# Altium schematic symbol library TP_LIB.SchLib: 10 symbols
Pins are listed as number, name and electrical type; pins without a type are passive.

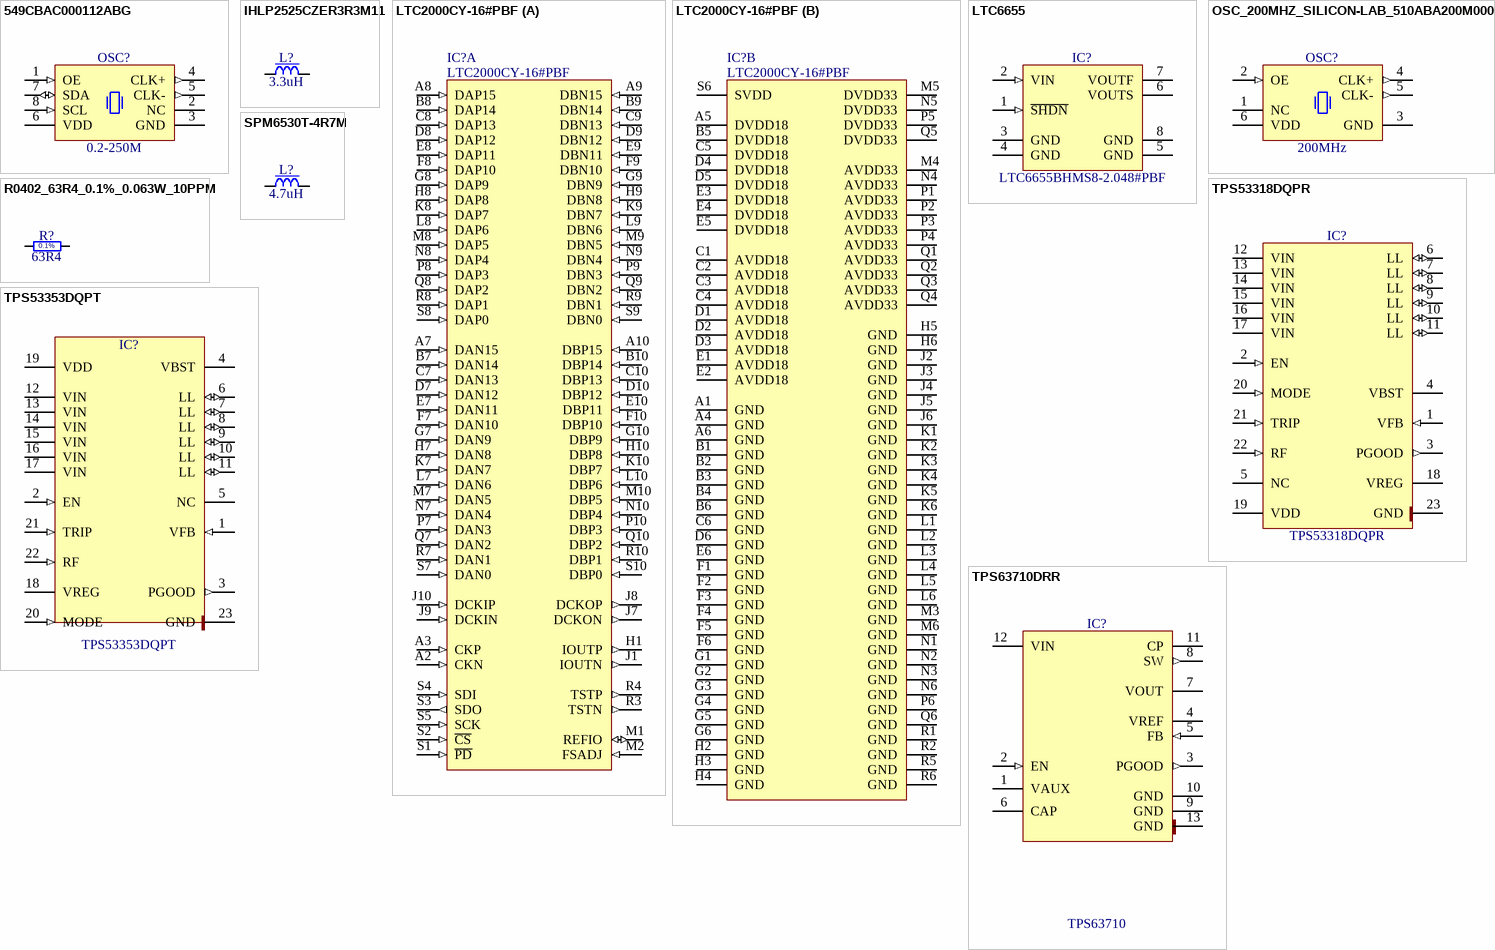
[diagram p0: symbols 549CBAC000112ABG to TPS63710DRR]

## 549CBAC000112ABG
designator OSC?, comment 0.2-250M
Ultra Low Jitter I2C Programmable XO (95 fs), 0.2 to 250MHz; Manufacturer: Silabs; Part Name: OSC_10-280MHZ_SILICON-LAB_Si570BBC000121DG; Part Number: OSC_0.2_250M_SILICON-LAB_549CBAC000112ABG; Cell Name: OSC_SILICON-LAB_SI549; Device: 549CBAC000112ABG; Tolerance: 25ppm; Voltage: 3V3; Case: OSC_SILICON-LAB_SI549; Manufacturer Part Number: 549CBAC000112ABG; Part Description: Ultra Low Jitter I2C Programmable XO (95 fs), 0.2 to 250MHz; Value: 0.2-250M
footprint OSC_SILICON-LAB_SI570 (Oscillator Si570 Series, 8 pins, 5x7mm)
pins: 1 OE (in), 2 NC, 3 GND (power), 4 CLK+ (out), 5 CLK- (out), 6 VDD (power), 7 SDA (io), 8 SCL (in)

## IHLP2525CZER3R3M11
designator L?, comment 3.3uH
Inductor With Core; Part Description: Low Profile, High Current IHLP® Inductor; Part Number: IND2525_3.3UH_20%_VISHAY_IHLP-2525CZ-11; Manufacturer: VISHAY DALE; Manufacturer Part Number: IHLP2525CZER3R3M11; Autho: TP; Power: 6.5A; Resistance: 0.026R; Tolerance: ±20%; Case: 2525; Pin Count: 2; Sense: No; Socket: No; SMD: Yes; Component Kind: Standard; Component Type: Standard; ComponentHeight: 3mm; CreateDate: 16.01.2019; Footprint: INDM6965X300N; Mounted: Yes; Status: None; Value: 3.3uH
footprint INDM6965X300N (Inductor Molded Body, Body 6.86mm L X 6.47mm W X 3mm H, IPC Medium Density)
pins: 1, 2

## LTC2000CY-16#PBF
designator IC?
16-Bit 2.5Gsps DAC; Manufacturer: LINEAR TECHNOLOGY; Autho: CERN / TP; Bonding: No; PressFit: No; HelpURL: \\cern.ch\dfs\Applications\Altium\Datasheets\LTC2000CY-16#PBF.pdf; LatestRevisionDate: 30.01.2019; Part Number: LTC2000CY-16#PBF; Part Description: 16-Bit 2.5Gsps DAC; Manufacturer Part Number: LTC2000CY-16#PBF; PackageDescription: BGA, 0.80mm Pitch, Rect.; 170 Pin, 10 Columns X 17 Rows, 9.00mm X 15.00mm X 1.69mm H, LTC DWG # 05-08-1890; Mounted: Yes; Case: BGA170; Component Kind: Standard; Component Type: Standard; ComponentHeight: 1.69mm; CreateDate: 29.09.2017; Device: LTC2000CY-16#PBF; Footprint: LINEAR_BGA(170) # 05-08-1890; Pin Count: 170; Sense: No; SMD: Yes; Socket: No
footprint LINEAR_BGA(170) # 05-08-1890 (BGA, 0.80mm Pitch, Rect.; 170 Pin, 10 Columns X 17 Rows, 9.00mm X 15.00mm X 1.69mm H, LTC DWG # 05-08-1890)
part A pins: A2 CKN (in), A3 CKP (in), A7 DAN15 (in), A8 DAP15 (in), A9 DBN15 (in), A10 DBP15 (in), B7 DAN14 (in), B8 DAP14 (in), B9 DBN14 (in), B10 DBP14 (in), C7 DAN13 (in), C8 DAP13 (in), C9 DBN13 (in), C10 DBP13 (in), D7 DAN12 (in), D8 DAP12 (in), D9 DBN12 (in), D10 DBP12 (in), E7 DAN11 (in), E8 DAP11 (in), E9 DBN11 (in), E10 DBP11 (in), F7 DAN10 (in), F8 DAP10 (in), F9 DBN10 (in), F10 DBP10 (in), G7 DAN9 (in), G8 DAP9 (in), G9 DBN9 (in), G10 DBP9 (in), H1 IOUTP (out), H7 DAN8 (in), H8 DAP8 (in), H9 DBN8 (in), H10 DBP8 (in), J1 IOUTN (out), J7 DCKON (out), J8 DCKOP (out), J9 DCKIN (in), J10 DCKIP (in), K7 DAN7 (in), K8 DAP7 (in), K9 DBN7 (in), K10 DBP7 (in), L7 DAN6 (in), L8 DAP6 (in), L9 DBN6 (in), L10 DBP6 (in), M1 REFIO (io), M2 FSADJ (in), M7 DAN5 (in), M8 DAP5 (in), M9 DBN5 (in), M10 DBP5 (in), N7 DAN4 (in), N8 DAP4 (in), N9 DBN4 (in), N10 DBP4 (in), P7 DAN3 (in), P8 DAP3 (in), P9 DBN3 (in), P10 DBP3 (in), Q7 DAN2 (in), Q8 DAP2 (in), Q9 DBN2 (in), Q10 DBP2 (in), R3 TSTN (out), R4 TSTP (out), R7 DAN1 (in), R8 DAP1 (in), R9 DBN1 (in), R10 DBP1 (in), S1 ~{PD} (in), S2 ~{CS} (in), S3 SDO (out), S4 SDI (in), S5 SCK (in), S7 DAN0 (in), S8 DAP0 (in), S9 DBN0 (in), S10 DBP0 (in)
part B pins: A1 GND (power), A4 GND (power), A5 DVDD18 (power), A6 GND (power), B1 GND (power), B2 GND (power), B3 GND (power), B4 GND (power), B5 DVDD18 (power), B6 GND (power), C1 AVDD18 (power), C2 AVDD18 (power), C3 AVDD18 (power), C4 AVDD18 (power), C5 DVDD18 (power), C6 GND (power), D1 AVDD18 (power), D2 AVDD18 (power), D3 AVDD18 (power), D4 DVDD18 (power), D5 DVDD18 (power), D6 GND (power), E1 AVDD18 (power), E2 AVDD18 (power), E3 DVDD18 (power), E4 DVDD18 (power), E5 DVDD18 (power), E6 GND (power), F1 GND (power), F2 GND (power), F3 GND (power), F4 GND (power), F5 GND (power), F6 GND (power), G1 GND (power), G2 GND (power), G3 GND (power), G4 GND (power), G5 GND (power), G6 GND (power), H2 GND (power), H3 GND (power), H4 GND (power), H5 GND (power), H6 GND (power), J2 GND (power), J3 GND (power), J4 GND (power), J5 GND (power), J6 GND (power), K1 GND (power), K2 GND (power), K3 GND (power), K4 GND (power), K5 GND (power), K6 GND (power), L1 GND (power), L2 GND (power), L3 GND (power), L4 GND (power), L5 GND (power), L6 GND (power), M3 GND (power), M4 AVDD33 (power), M5 DVDD33 (power), M6 GND (power), N1 GND (power), N2 GND (power), N3 GND (power), N4 AVDD33 (power), N5 DVDD33 (power), N6 GND (power), P1 AVDD33 (power), P2 AVDD33 (power), P3 AVDD33 (power), P4 AVDD33 (power), P5 DVDD33 (power), P6 GND (power), Q1 AVDD33 (power), Q2 AVDD33 (power), Q3 AVDD33 (power), Q4 AVDD33 (power), Q5 DVDD33 (power), Q6 GND (power), R1 GND (power), R2 GND (power), R5 GND (power), R6 GND (power), S6 SVDD (power)

## LTC6655
designator IC?, comment LTC6655BHMS8-2.048#PBF
0.25ppm Noise, Low Drift Precision Buffered Voltage Reference; Manufacturer: LINEAR TECHNOLOGY; Part Description: 2.048V, 0.25ppm Noise, Low Drift Precision Buffered Voltage Reference; Autor: CERN DEM BC; Bonding: No; PressFit: No; Case: SSOP8; Component Kind: Standard; Footprint: SOP65P490X110-8N; LatestRevisionDate: 22.11.2016; Manufacturer Part Number: LTC6655BHMS8-2.048#PBF; Mounted: Yes; PackageDescription: SOP, 8-Leads, Body 3.1x3.1mm (max), Pitch 0.65mm, IPC Medium Density; Component Type: Standard; ComponentHeight: 1.1mm; CreateDate: 03.03.2016; Device: LTC6655BHMS8-2.048#PBF; Part Number: LTC6655BHMS8-2.048#PBF; Pin Count: 8; Sense: No; SMD: Yes; Socket: No
footprint SOP65P490X110-8N (SOP, 0.65mm pitch; 8 pin, 3.00mm W X 3.00mm L X 1.10mm H body, IPC Medium Density)
pins: 1 ~{SHDN} (in), 2 VIN (in), 3 GND (power), 4 GND (power), 5 GND (power), 6 VOUTS (power), 7 VOUTF (power), 8 GND (power)

## OSC_200MHZ_SILICON-LAB_510ABA200M000AAG
designator OSC?, comment 200MHz
Crystal Oscillator 6 pins, Si510 (LVDS/LVPECL/HCSL/Dual CMOS); Manufacturer Part Number: 510ABA200M000AAG; Part Description: 3.3V ±25ppm LVPECL Crystal Oscillator (XO), Si510 Series; Part Number: OSC_200MHZ_SILICON-LAB_510ABA200M000AAG; Manufacturer: SILICON LABS; Autho: T.P.; PressFit: No; Bonding: No; Mounted: Yes; PackageDescription: Oscillator Si510 Series, 6 pins, 5x7mm; Pin Count: 6; Sense: No; Component Kind: Standard; Component Type: Standard; ComponentHeight: 1.8mm; CreateDate: 22.01.2019; Footprint: OSC_SILICON-LAB_SI510-6N(5X7); SMD: Yes; Value: 200MHz; Socket: No
footprint OSC_SILICON-LAB_SI510-6N(5X7) (Oscillator Si510 Series, 6 pins, 5x7mm)
pins: 1 NC, 2 OE (in), 3 GND (power), 4 CLK+ (out), 5 CLK- (out), 6 VDD (power)

## R0402_63R4_0.1%_0.063W_10PPM
designator R?, comment 63R4
Resistor - 0.1%; Manufacturer: GENERIC; Manufacturer Part Number: R0402_63R4_0.1%_0.063W_10PPM; Manufacturer1 Part Number: RN73C1E63R4BTD; Part Description: Thin Film Chip Resistor; Authorr: TPrzywoz; Power: 0.063W; PressFit: No; TC: ±10ppm; Component Kind: Standard; Component Type: Standard; CreateDate: 06.12.2018; Footprint: RESC1005X35N; LatestRevisionDate: 09.03.2017; Manufacturer1 ComponentHeight: 0.35mm; Case: 0402; Manufacturer1 Example: TE Connectivity Passive Product; Mounted: Yes; Part Number: R0402_63R4_0.1%_0.063W_10PPM; Pin Count: 2; Sense: No; SMD: Yes; Socket: No; Status: Not Recommended; Tolerance: ±0.1%; Value: 63R4
footprint RESC1005X35N (Chip Resistor, EIA 0402, Metric 1005, Body 1.0x0.5mm, IPC Medium Density)
pins: 1, 2
text: 0.1%

## SPM6530T-4R7M
designator L?, comment 4.7uH
Inductor With Core; Part Description: SMD Inductor for Power Circuits (Wound Metal), SPM Series; Part Number: IND_4.7UH_20%_TDK_SPM6530; Manufacturer: TDK; Manufacturer Part Number: SPM6530T-4R7M; Autho: TP; Power: 5.6A; Resistance: 0.039R; Tolerance: ±20%; Pin Count: 2; Sense: No; Socket: No; SMD: Yes; Component Kind: Standard; Component Type: Standard; ComponentHeight: 3mm; CreateDate: 16.01.2019; Footprint: IND_TDK_SPM6530; Mounted: Yes; Status: None; Value: 4.7uH
footprint IND_TDK_SPM6530 (SMD Inductor, 7.1mm L X 6.5mm W X 3mm H, TDK SPM6530 Series)
pins: 1, 2

## TPS53318DQPR
designator IC?
1.5V to 15V Input (4.5V to 25V Bias), 30A Synchronous Step-Down SWIFT™ Converter with Eco-mode™; Manufacturer: TEXAS INSTRUMENTS; Part Description: 1.5V to 22V Input (4.5V to 25V Bias), 8A Synchronous Buck Converter with Eco-mode Control; Autho: T.P.; Bonding: No; PressFit: No; Case: SON22; Device: TPS53318DQPR; Footprint: SON50P500X600X150-23N-R334X557; Manufacturer Part Number: TPS53318DQPR; Mounted: Yes; PackageDescription: SON, 0.50mm Pitch; 22 Pin, 5.00mm W X 6.00mm L X 1.50mm H Body (w/Thermal Tab 3.34 X 5.57mm), IPC Medium Density; Component Kind: Standard; Component Type: Standard; ComponentHeight: 1.5mm; CreateDate: 14.01.2019; Part Number: TPS53318DQPR; Pin Count: 23; Sense: No; SMD: Yes; Socket: No
footprint SON50P500X600X150-23N-R334X557 (SON, 0.50mm Pitch; 22 Pin, 5.00mm W X 6.00mm L X 1.50mm H Body (w/Thermal Tab 3.34 X 5.57mm), IPC Medium Density)
pins: 1 VFB (in), 2 EN (in), 3 PGOOD (out), 4 VBST (power), 5 NC, 6 LL (io), 7 LL (io), 8 LL (io), 9 LL (io), 10 LL (io), 11 LL (io), 12 VIN (power), 13 VIN (power), 14 VIN (power), 15 VIN (power), 16 VIN (power), 17 VIN (power), 18 VREG (power), 19 VDD (power), 20 MODE (in), 21 TRIP (in), 22 RF (in), 23 GND (power)

## TPS53353DQPT
designator IC?
1.5V to 15V Input (4.5V to 25V Bias), 20A Synchronous Buck SWIFT™ Converter with Eco-mode™; Manufacturer: TEXAS INSTRUMENTS; Autho: TP; PressFit: No; Bonding: No; Mounted: Yes; Part Number: TPS53353DQPT; Pin Count: 23; Socket: No; Sense: No; SMD: Yes; Case: SON22; Component Kind: Standard; Component Type: Standard; ComponentHeight: 1.5mm; CreateDate: 17.01.2019; Device: TPS53353DQPT; Footprint: SON50P500X600X150-23N-R334X557; Manufacturer Part Number: TPS53353DQPT; PackageDescription: SON, 0.50mm Pitch; 22 Pin, 5.00mm W X 6.00mm L X 1.50mm H Body (w/Thermal Tab 3.34 X 5.57mm), IPC Medium Density; Part Description: 1.5V to 15V Input (4.5V to 25V Bias), 20A Synchronous Buck SWIFT™ Converter with Eco-mode™
footprint SON50P500X600X150-23N-R334X557 (SON, 0.50mm Pitch; 22 Pin, 5.00mm W X 6.00mm L X 1.50mm H Body (w/Thermal Tab 3.34 X 5.57mm), IPC Medium Density)
pins: 1 VFB (in), 2 EN (in), 3 PGOOD (out), 4 VBST (power), 5 NC, 6 LL (io), 7 LL (io), 8 LL (io), 9 LL (io), 10 LL (io), 11 LL (io), 12 VIN (power), 13 VIN (power), 14 VIN (power), 15 VIN (power), 16 VIN (power), 17 VIN (power), 18 VREG (power), 19 VDD (power), 20 MODE (in), 21 TRIP (in), 22 RF (in), 23 GND (power)

## TPS63710DRR
designator IC?, comment TPS63710
3.1V to 14V Input, 1A  Low Noise Synchronous Inverting Buck Converter; Manufacturer: TEXAS INSTRUMENTS; Autho: TP; PressFit: No; Bonding: No; Mounted: Yes; Part Number: TPS63710; Pin Count: 13; Socket: No; Sense: No; SMD: Yes; Case: -; Component Kind: Standard; Component Type: Standard; ComponentHeight: 1.5mm; CreateDate: 17.01.2019; Device: TPS63710; Footprint: -; Manufacturer Part Number: TPS63710; PackageDescription: -; Part Description: 3.1V to 14V Input, 1A  Low Noise Synchronous Inverting Buck Converter
pins: 1 VAUX (power), 2 EN (in), 3 PGOOD (out), 4 VREF (power), 5 FB (in), 6 CAP (power), 7 VOUT (power), 8 SW (out), 9 GND (power), 10 GND (power), 11 CP (power), 12 VIN (power), 13 GND (power)